# EAGLE library part 6561-0300 (library relay)
20 / 30 A-Leistungsrelais Source: http://www.finder.de/comuni/pdf/S65DE.pdf
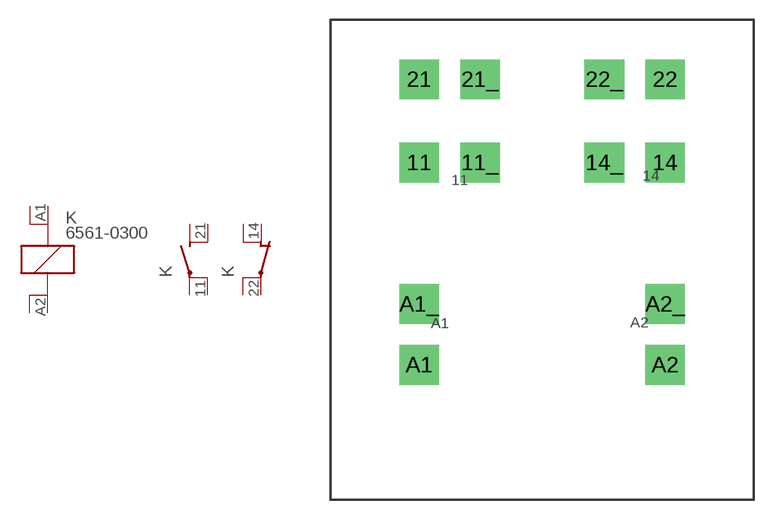
[diagram p151: symbol with the pads of 6561-0300; footprint 6561-0300]

Designator prefix K; gates 1=K-2P 2=S-2P -1=O-2P

## 6561-0300VAC6 (OC_FARNELL: unknown; OC_NEWARK: unknown), 6561-0300VAC12 (OC_FARNELL: unknown; OC_NEWARK: unknown), 6561-0300VAC24 (OC_FARNELL: unknown; OC_NEWARK: unknown), 6561-0300VAC48 (OC_FARNELL: unknown; OC_NEWARK: unknown), 6561-0300VAC60 (OC_FARNELL: unknown; OC_NEWARK: unknown), 6561-0300VAC110 (OC_FARNELL: unknown; OC_NEWARK: unknown), 6561-0300VAC120 (OC_FARNELL: unknown; OC_NEWARK: unknown), 6561-0300VAC230 (OC_FARNELL: unknown; OC_NEWARK: unknown), 6561-0300VAC240 (OC_FARNELL: unknown; OC_NEWARK: unknown), 6561-0300VAC400 (OC_FARNELL: unknown; OC_NEWARK: unknown), 6561-0300VDC6 (OC_FARNELL: unknown; OC_NEWARK: unknown), 6561-0300VDC12 (OC_FARNELL: unknown; OC_NEWARK: unknown), 6561-0300VDC24 (OC_FARNELL: unknown; OC_NEWARK: unknown), 6561-0300VDC48 (OC_FARNELL: unknown; OC_NEWARK: unknown), 6561-0300VDC60 (OC_FARNELL: unknown; OC_NEWARK: unknown), 6561-0300VDC110 (OC_FARNELL: unknown; OC_NEWARK: unknown), 6561-0300VDC125 (OC_FARNELL: unknown; OC_NEWARK: unknown), 6561-0300VDC220 (OC_FARNELL: unknown; OC_NEWARK: unknown)  [6561-0300]
11  2:P_  pas
11_  2:P  pas
14  -1:O  pas
14_  -1:O_  pas
21  2:S_  pas
21_  2:S  pas
22  -1:P  pas
22_  -1:P_  pas
A1  1:1_  pas
A1_  1:1  pas
A2  1:2_  pas
A2_  1:2  pas

## Footprint 6561-0300 (pad centres in mm)
20 / 30 A-Leistungsrelais Source: http://www.finder.de/comuni/pdf/S65DE.pdf
drill 2 pad 2.54 square: 11 -9.3,5; 11_ -4.7,5; 14 9.3,5; 14_ 4.7,5; 21 -9.3,11.3; 21_ -4.7,11.3; 22 9.3,11.3; 22_ 4.7,11.3; A1 -9.3,-10.3; A1_ -9.3,-5.7; A2 9.3,-10.3; A2_ 9.3,-5.7